# Altium schematic symbol library balun.SchLib: 1 symbol
Pins are listed as number, name and electrical type; pins without a type are passive.

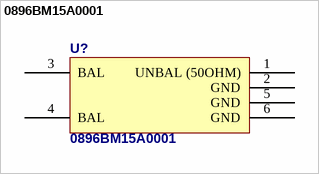
[diagram p0: symbol 0896BM15A0001]

## 0896BM15A0001
designator U?
868/915 MHz Impedance Matched/Balun/LPF Integrated Component for T.I. CC110X, CC111X, CC113X and CC115X, CC110L, CC113L, CC115L and CC430 Chipsets
footprint 0896BM15A0001 (896 MHz Balun/Matching Network for T.I. Chipset CC11XX)
pins: 1 UNBAL (50OHM), 2 GND, 3 BAL, 4 BAL, 5 GND, 6 GND